# Altium schematic symbol library IntegratedICs.SchLib: 26 symbols
Pins are listed as number, name and electrical type; pins without a type are passive.

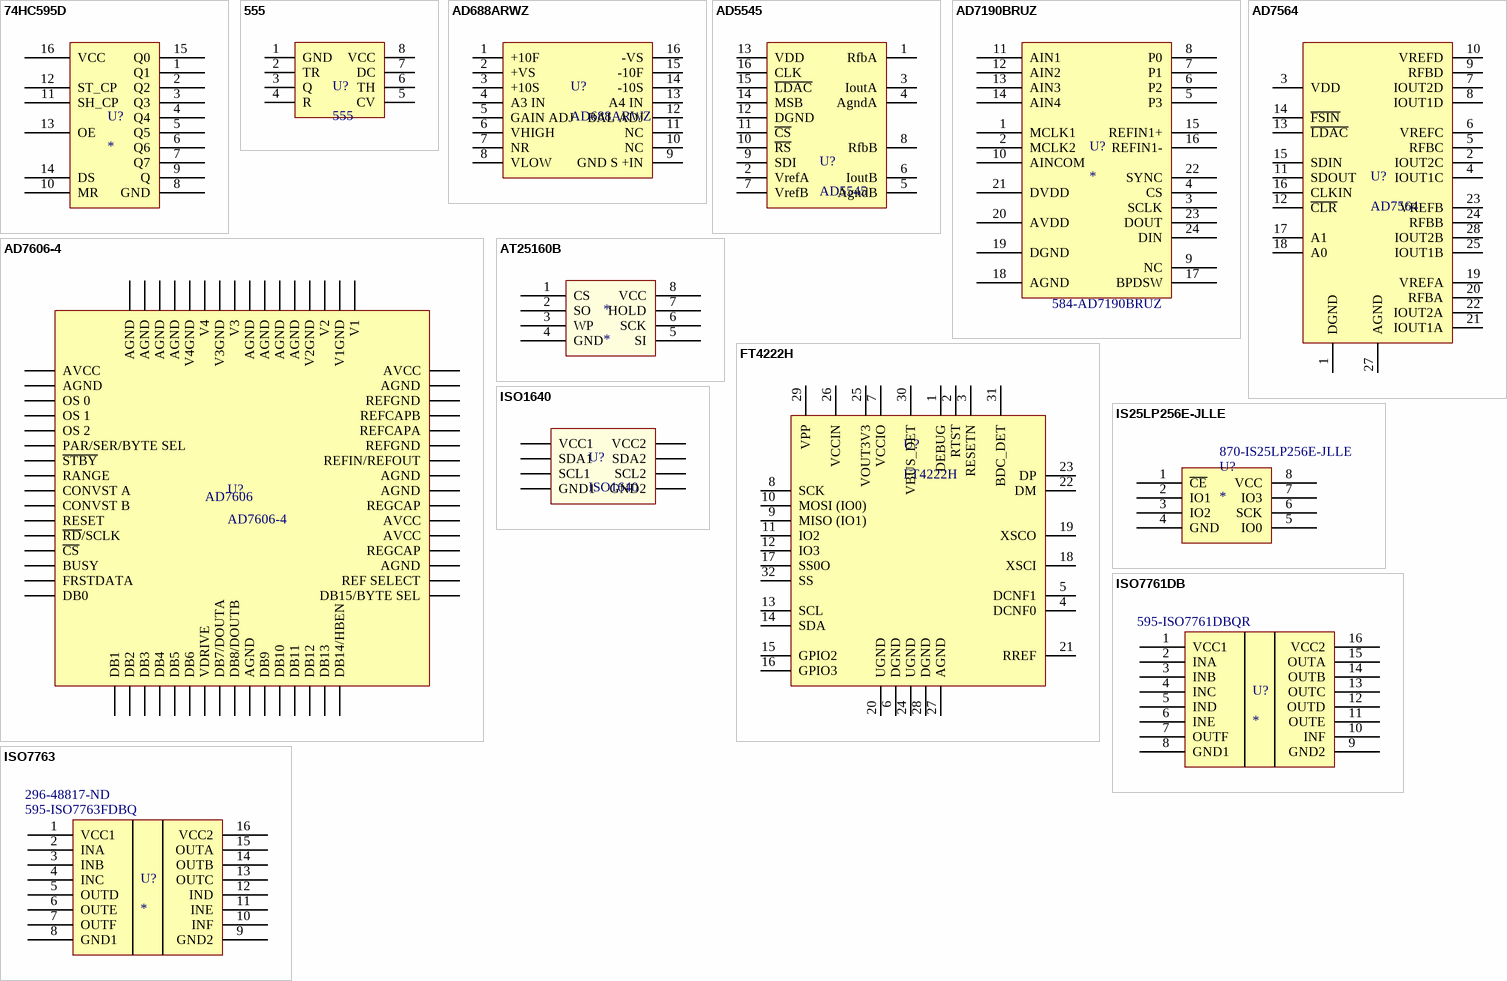
[diagram p0: symbols 74HC595D to ISO7763]

## 74HC595D
designator U?
footprint SOIC-16 (Footprint not found)
pins: 1 Q1, 2 Q2, 3 Q3, 4 Q4, 5 Q5, 6 Q6, 7 Q7, 8 GND, 9 Q, 10 MR, 11 SH_CP, 12 ST_CP, 13 OE, 14 DS, 15 Q0, 16 VCC

## 555
designator U?
footprint SOIC-8 (Footprint not found)
pins: 1 GND, 2 TR, 3 Q, 4 R, 5 CV, 6 TH, 7 DC, 8 VCC

## AD688ARWZ
designator U?
Supplier 1: Digi-Key; Supplier 2: Mouser; Supplier Part Number 1: AD688ARWZ-ND; Supplier Part Number 2: 584-AD688ARWZ
footprint SOIC-16 (SOIC, 16-Leads, Body 9.90x5.30mm, Pitch 1.27mm, IPC Medium Density)
pins: 1 +10F, 2 +VS, 3 +10S, 4 A3 IN, 5 GAIN ADJ, 6 VHIGH, 7 NR, 8 VLOW, 9 GND S +IN, 10 NC, 11 NC, 12 BAL ADJ, 13 A4 IN, 14 -10S, 15 -10F, 16 -VS

## AD5545
designator U?
footprint TSSOP-16 (Footprint not found)
pins: 1 RfbA, 2 VrefA, 3 IoutA, 4 AgndA, 5 AgndB, 6 IoutB, 7 VrefB, 8 RfbB, 9 SDI, 10 ~{RS}, 11 ~{CS}, 12 DGND, 13 VDD, 14 MSB, 15 ~{LDAC}, 16 CLK

## AD7190BRUZ
designator U?  Supplier Part Number 1: 584-AD7190BRUZ
Supplier 1: Mouser
footprint TSSOP-24 (Footprint not found)
pins: 1 MCLK1, 2 MCLK2, 3 SCLK, 4 CS, 5 P3, 6 P2, 7 P1, 8 P0, 9 NC, 10 AINCOM, 11 AIN1, 12 AIN2, 13 AIN3, 14 AIN4, 15 REFIN1+, 16 REFIN1-, 17 BPDSW, 18 AGND, 19 DGND, 20 AVDD, 21 DVDD, 22 SYNC, 23 DOUT, 24 DIN

## AD7564
designator U?
+3.3 V/+5 V, Low Power, Quad 12-Bit DAC
footprint DIP-28 (Footprint not found)
pins: 1 DGND, 2 IOUT2C, 3 VDD, 4 IOUT1C, 5 RFBC, 6 VREFC, 7 IOUT2D, 8 IOUT1D, 9 RFBD, 10 VREFD, 11 SDOUT, 12 ~{CLR}, 13 ~{LDAC}, 14 ~{FSIN}, 15 SDIN, 16 CLKIN, 17 A1, 18 A0, 19 VREFA, 20 RFBA, 21 IOUT1A, 22 IOUT2A, 23 VREFB, 24 RFBB, 25 IOUT1B, 27 AGND, 28 IOUT2B

## AD7606-4
designator U?
Supplier 1: Digi-Key; Supplier 2: Mouser; Supplier Part Number 1: 505-AD7606BSTZ-4RLCT-ND; Supplier Part Number 2: 584-AD7606BSTZ-4R
footprint LQFP-64 (Footprint not found)
pins: 1 AVCC, 2 AGND, 3 OS 0, 4 OS 1, 5 OS 2, 6 PAR/SER/BYTE SEL, 7 ~{STBY}, 8 RANGE, 9 CONVST A, 10 CONVST B, 11 RESET, 12 ~{RD}/SCLK, 13 ~{CS}, 14 BUSY, 15 FRSTDATA, 16 DB0, 17 DB1, 18 DB2, 19 DB3, 20 DB4, 21 DB5, 22 DB6, 23 VDRIVE, 24 DB7/DOUTA, 25 DB8/DOUTB, 26 AGND, 27 DB9, 28 DB10, 29 DB11, 30 DB12, 31 DB13, 32 DB14/HBEN, 33 DB15/BYTE SEL, 34 REF SELECT, 35 AGND, 36 REGCAP, 37 AVCC, 38 AVCC, 39 REGCAP, 40 AGND, 41 AGND, 42 REFIN/REFOUT, 43 REFGND, 44 REFCAPA, 45 REFCAPB, 46 REFGND, 47 AGND, 48 AVCC, 49 V1, 50 V1GND, 51 V2, 52 V2GND, 53 AGND, 54 AGND, 55 AGND, 56 AGND, 57 V3, 58 V3GND, 59 V4, 60 V4GND, 61 AGND, 62 AGND, 63 AGND, 64 AGND
text: AD7606

## AT25160B
designator *
footprint SOIC-8 (Footprint not found)
pins: 1 CS, 2 SO, 3 WP, 4 GND, 5 SI, 6 SCK, 7 HOLD, 8 VCC

## FT4222H
designator U?
USB2.0 to QuadSPI/I2C / Bridge IC; Supplier 1: Mouser; Supplier Part Number 1: 895-FT4222H-R
footprint QFN-32 (Footprint not found)
pins: 1 DEBUG, 2 RTST, 3 RESETN, 4 DCNF0, 5 DCNF1, 6 DGND, 7 VCCIO, 8 SCK, 9 MISO (IO1), 10 MOSI (IO0), 11 IO2, 12 IO3, 13 SCL, 14 SDA, 15 GPIO2, 16 GPIO3, 17 SS0O, 18 XSCI, 19 XSCO, 20 UGND, 21 RREF, 22 DM, 23 DP, 24 UGND, 25 VOUT3V3, 26 VCCIN, 27 AGND, 28 DGND, 29 VPP, 30 VBUS_DET, 31 BDC_DET, 32 SS

## IS25LP256E-JLLE
designator U?  Supplier Part Number 1: 870-IS25LP256E-JLLE
NOR Flash 256Mb QPI/QSPI, 8-pin WSON 6X8MM, RoHS; Supplier 1: Mouser; ComponentLink1Description: datasheet; ComponentLink1URL: https://www.mouser.de/datasheet/2/198/25LP-WP256E-1620711.pdf
footprint WSON-8 (Footprint not found)
pins: 1 ~{CE}, 2 IO1, 3 IO2, 4 GND, 5 IO0, 6 SCK, 7 IO3, 8 VCC

## ISO1640
designator U?
Supplier 1: Mouser; Supplier Part Number 1: 595-ISO1640BDR
footprint SOIC-8 (SOIC, 8-Leads, Body 6.20x5.30mm, Pitch 1.27mm, IPC Medium Density)
pins: 1 VCC1, 2 SDA1, 3 SCL1, 4 GND1, 5 GND2, 6 SCL2, 7 SDA2, 8 VCC2

## ISO7761DB
designator U?  Supplier Part Number 1: 595-ISO7761DBQR
Supplier 1: Mouser; ComponentLink1Description: DATASHEET; ComponentLink1URL: https://www.ti.com/lit/ds/symlink/iso7761.pdf?ts=1601364656708&ref_url=https%253A%252F%252Fwww.ti.com%252Fproduct%252FISO7761
footprint SSOP-16 (Footprint not found)
pins: 1 VCC1, 2 INA, 3 INB, 4 INC, 5 IND, 6 INE, 7 OUTF, 8 GND1, 9 GND2, 10 INF, 11 OUTE, 12 OUTD, 13 OUTC, 14 OUTB, 15 OUTA, 16 VCC2

## ISO7763
designator U?  Supplier Part Number 1: 595-ISO7763FDBQ  Supplier Part Number 2: 296-48817-ND
ComponentLink1Description: DATASHEET; ComponentLink1URL: https://www.ti.com/lit/ds/symlink/iso7761.pdf?ts=1601364656708&ref_url=https%253A%252F%252Fwww.ti.com%252Fproduct%252FISO7761; Supplier 1: Mouser; Supplier 2: Digi-Key
footprint SSOP-16 (Footprint not found)
pins: 1 VCC1, 2 INA, 3 INB, 4 INC, 5 OUTD, 6 OUTE, 7 OUTF, 8 GND1, 9 GND2, 10 INF, 11 INE, 12 IND, 13 OUTC, 14 OUTB, 15 OUTA, 16 VCC2

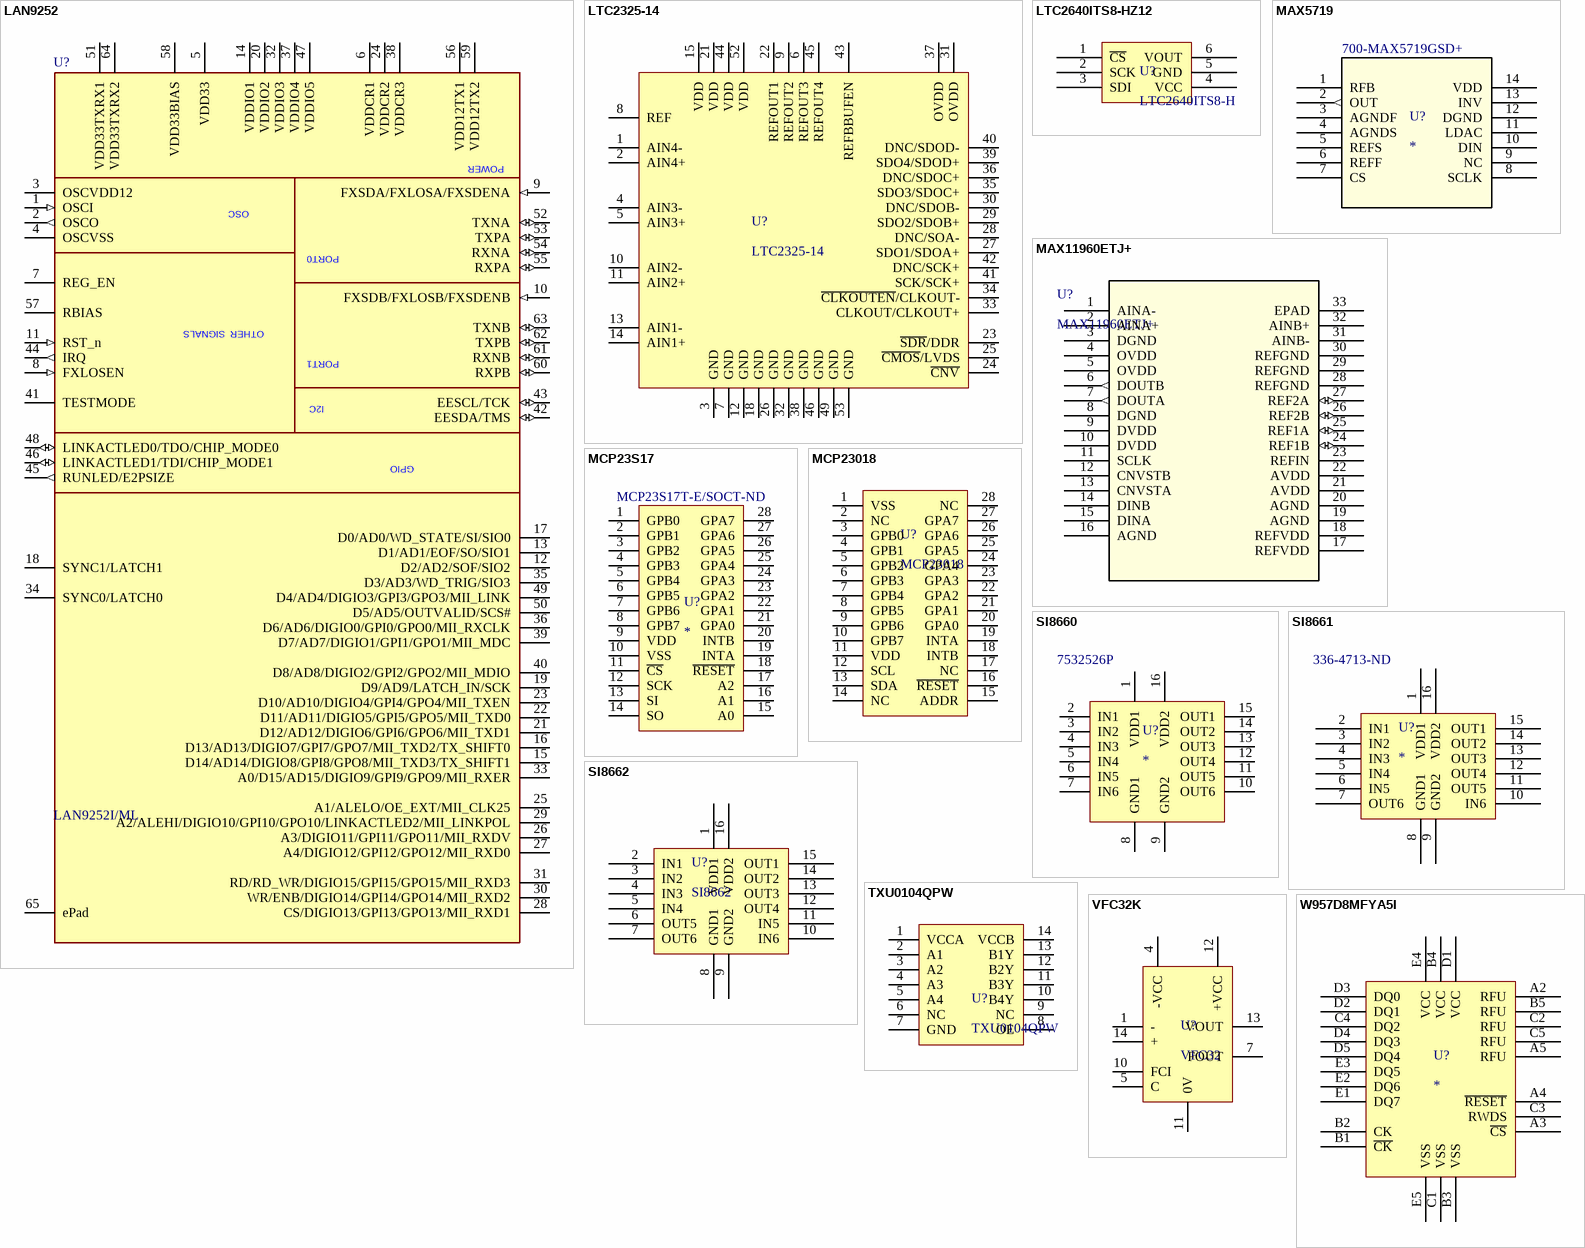
[diagram p1: symbols LAN9252 to W957D8MFYA5I]

## LAN9252
designator U?, comment value LAN9252I/ML  (hidden comment: LAN9252 QFN-64)
Manufacturer 1: Microchip Technology; MCHP-ID: MIC7449; Description_: MCHP INTERFACE ETHERNET LAN9252I/ML 64QFN; Dev Tools Status: Production; Owner: Dragos Danaila; Populated: YES; Symbol: LAN9252 QFN-64; Type: Ethernet; Status: MCL Design; Revision: 1; Category: MCHP-Interface; ComponentLink1Description: SVN Datasheet; ComponentLink2URL: C:\ALTIUM_WORK\00001_MCHP-CDB\Datasheets\00001909A.pdf; ComponentLink2Description: Local Datasheet; ComponentLink3URL: C:\ALTIUM_WORK\00001_MCHP-CDB\Library\LibraryRefs\LAN9252 QFN-64.SchLib; ComponentLink3Description: Open Symbol; ComponentLink4URL: C:\ALTIUM_WORK\00001_MCHP-CDB\Library\Footprints\QFN-64_9X9_EP6.PcbLib; ComponentLink4Description: Open Footprint; ComponentLink5Description: Open Footprint 2; ComponentLink6Description: Open Footprint 3; ComponentLink7Description: Open Footprint 4; Manufacturer Part Number 1: LAN9252I/ML; Supplier 1: Digi-Key; Supplier Part Number 1: LAN9252I/ML-ND; Quantity Override: 1
footprint QFN-64 (Footprint not found)
pins: 1 OSCI (in), 2 OSCO (out), 3 OSCVDD12 (power), 4 OSCVSS (power), 5 VDD33 (power), 6 VDDCR1 (power), 7 REG_EN, 8 FXLOSEN (in), 9 FXSDA/FXLOSA/FXSDENA (in), 10 FXSDB/FXLOSB/FXSDENB (in), 11 RST_n (in), 12 D2/AD2/SOF/SIO2, 13 D1/AD1/EOF/SO/SIO1, 14 VDDIO1 (power), 15 D14/AD14/DIGIO8/GPI8/GPO8/MII_TXD3/TX_SHIFT1, 16 D13/AD13/DIGIO7/GPI7/GPO7/MII_TXD2/TX_SHIFT0, 17 D0/AD0/WD_STATE/SI/SIO0, 18 SYNC1/LATCH1, 19 D9/AD9/LATCH_IN/SCK, 20 VDDIO2 (power), 21 D12/AD12/DIGIO6/GPI6/GPO6/MII_TXD1, 22 D11/AD11/DIGIO5/GPI5/GPO5/MII_TXD0, 23 D10/AD10/DIGIO4/GPI4/GPO4/MII_TXEN, 24 VDDCR2 (power), 25 A1/ALELO/OE_EXT/MII_CLK25, 26 A3/DIGIO11/GPI11/GPO11/MII_RXDV, 27 A4/DIGIO12/GPI12/GPO12/MII_RXD0, 28 CS/DIGIO13/GPI13/GPO13/MII_RXD1, 29 A2/ALEHI/DIGIO10/GPI10/GPO10/LINKACTLED2/MII_LINKPOL, 30 WR/ENB/DIGIO14/GPI14/GPO14/MII_RXD2, 31 RD/RD_WR/DIGIO15/GPI15/GPO15/MII_RXD3, 32 VDDIO3 (power), 33 A0/D15/AD15/DIGIO9/GPI9/GPO9/MII_RXER, 34 SYNC0/LATCH0, 35 D3/AD3/WD_TRIG/SIO3, 36 D6/AD6/DIGIO0/GPI0/GPO0/MII_RXCLK, 37 VDDIO4 (power), 38 VDDCR3 (power), 39 D7/AD7/DIGIO1/GPI1/GPO1/MII_MDC, 40 D8/AD8/DIGIO2/GPI2/GPO2/MII_MDIO, 41 TESTMODE, 42 EESDA/TMS (io), 43 EESCL/TCK (io), 44 IRQ (out), 45 RUNLED/E2PSIZE (out), 46 LINKACTLED1/TDI/CHIP_MODE1 (io), 47 VDDIO5 (power), 48 LINKACTLED0/TDO/CHIP_MODE0 (io), 49 D4/AD4/DIGIO3/GPI3/GPO3/MII_LINK, 50 D5/AD5/OUTVALID/SCS#, 51 VDD33TXRX1 (power), 52 TXNA (io), 53 TXPA (io), 54 RXNA (io), 55 RXPA (io), 56 VDD12TX1 (power), 57 RBIAS, 58 VDD33BIAS (power), 59 VDD12TX2 (power), 60 RXPB (io), 61 RXNB (io), 62 TXPB (io), 63 TXNB (io), 64 VDD33TXRX2 (power), 65 ePad (power)
3 alternate drawings of the same symbol
text: POWER; OSC; PORT0; OTHER  SIGNALS; PORT1; I2C; GPIO

## LTC2325-14
designator U?
Quad, 14-Bit + Sign, 5Msps/Ch / Simultaneous Sampling ADC
footprint QFN-52 (Footprint not found)
pins: 1 AIN4-, 2 AIN4+, 3 GND, 4 AIN3-, 5 AIN3+, 6 REFOUT3, 7 GND, 8 REF, 9 REFOUT2, 10 AIN2-, 11 AIN2+, 12 GND, 13 AIN1-, 14 AIN1+, 15 VDD, 18 GND, 21 VDD, 22 REFOUT1, 23 ~{SDR}/DDR, 24 ~{CNV}, 25 ~{CMOS}/LVDS, 26 GND, 27 SDO1/SDOA+, 28 DNC/SOA-, 29 SDO2/SDOB+, 30 DNC/SDOB-, 31 OVDD, 32 GND, 33 CLKOUT/CLKOUT+, 34 ~{CLKOUTEN}/CLKOUT-, 35 SDO3/SDOC+, 36 DNC/SDOC+, 37 OVDD, 38 GND, 39 SDO4/SDOD+, 40 DNC/SDOD-, 41 SCK/SCK+, 42 DNC/SCK+, 43 REFBBUFEN, 44 VDD, 45 REFOUT4, 46 GND, 49 GND, 52 VDD, 53 GND

## LTC2640ITS8-HZ12
designator U?, comment LTC2640ITS8-H
Supplier 1: Digi-Key; Supplier Part Number 1: LTC2640ITS8-HZ12#TRMPBFCT-ND
footprint SC-70-6 (Footprint not found)
pins: 1 ~{CS}, 2 SCK, 3 SDI, 4 VCC, 5 GND, 6 VOUT

## MAX5719
designator U?  Supplier Part Number 1: 700-MAX5719GSD+
DAC 1Msps 18-bit; Supplier 1: Mouser
footprint SOIC-14 (SOIC, 14-Leads, Body 8.65x3.90mm, Pitch 1.27mm, IPC High Density)
pins: 1 RFB, 2 OUT (out), 3 AGNDF, 4 AGNDS, 5 REFS, 6 REFF, 7 CS, 8 SCLK, 9 NC, 10 DIN, 11 LDAC, 12 DGND, 13 INV, 14 VDD (power)

## MAX11960ETJ+
designator U?
ADC 2Ch 1Msps 18-bit; Vendor: Maxim Integrated Products; Built_By: EMA_UL_Team; SourceLibrary: Maxim_2018-11-30; Manufacturer_Part_Number: MAX11960ETJ+; Copyright: Copyright (C) 2018 Accelerated Designs. All rights reserved; RefDes: RefDes; Type: DEV
footprint 21-0140L_T3255-5_MXM
footprint QFN-32 (QFN, 32-Leads, Body 5.10x5.10mm, Pitch 0.50mm, Thermal Pad 3.15x3.15mm, IPC High Density)
pins: 1 AINA-, 2 AINA+, 3 DGND, 4 OVDD (power), 5 OVDD (power), 6 DOUTB (out), 7 DOUTA (out), 8 DGND, 9 DVDD (power), 10 DVDD (power), 11 SCLK, 12 CNVSTB, 13 CNVSTA, 14 DINB, 15 DINA, 16 AGND, 17 REFVDD (power), 18 REFVDD (power), 19 AGND, 20 AGND, 21 AVDD (power), 22 AVDD (power), 23 REFIN, 24 REF1B (io), 25 REF1A (io), 26 REF2B (io), 27 REF2A (io), 28 REFGND, 29 REFGND, 30 REFGND, 31 AINB-, 32 AINB+, 33 EPAD

## MCP23S17
designator U?  Supplier Part Number 1: MCP23S17T-E/SOCT-ND
Supplier 1: Digi-Key
footprint SOIC-28 (Footprint not found)
pins: 1 GPB0, 2 GPB1, 3 GPB2, 4 GPB3, 5 GPB4, 6 GPB5, 7 GPB6, 8 GPB7, 9 VDD, 10 VSS, 11 ~{CS}, 12 SCK, 13 SI, 14 SO, 15 A0, 16 A1, 17 A2, 18 ~{RESET}, 19 INTA, 20 INTB, 21 GPA0, 22 GPA1, 23 GPA2, 24 GPA3, 25 GPA4, 26 GPA5, 27 GPA6, 28 GPA7

## MCP23018
designator U?
Supplier 1: Digi-Key; Supplier 2: Mouser; Supplier Part Number 1: MCP23018-E/SO-ND; Supplier Part Number 2: 579-MCP23018-E/SO
footprint SOIC-28 (SOIC, 28-Leads, Body 17.90x7.50mm, Pitch 1.27mm, IPC Medium Density)
pins: 1 VSS, 2 NC, 3 GPB0, 4 GPB1, 5 GPB2, 6 GPB3, 7 GPB4, 8 GPB5, 9 GPB6, 10 GPB7, 11 VDD, 12 SCL, 13 SDA, 14 NC, 15 ADDR, 16 ~{RESET}, 17 NC, 18 INTB, 19 INTA, 20 GPA0, 21 GPA1, 22 GPA2, 23 GPA3, 24 GPA4, 25 GPA5, 26 GPA6, 27 GPA7, 28 NC

## SI8660
designator U?  Supplier Part Number 1: 7532526P
Supplier 1: RSComponents
footprint SOIC-16 (Footprint not found)
pins: 1 VDD1, 2 IN1, 3 IN2, 4 IN3, 5 IN4, 6 IN5, 7 IN6, 8 GND1, 9 GND2, 10 OUT6, 11 OUT5, 12 OUT4, 13 OUT3, 14 OUT2, 15 OUT1, 16 VDD2

## SI8661
designator U?  Supplier Part Number 1: 336-4713-ND
Supplier 1: Digi-Key
footprint SOIC-16 (Footprint not found)
pins: 1 VDD1, 2 IN1, 3 IN2, 4 IN3, 5 IN4, 6 IN5, 7 OUT6, 8 GND1, 9 GND2, 10 IN6, 11 OUT5, 12 OUT4, 13 OUT3, 14 OUT2, 15 OUT1, 16 VDD2

## SI8662
designator U?
footprint SOIC-16 (Footprint not found)
pins: 1 VDD1, 2 IN1, 3 IN2, 4 IN3, 5 IN4, 6 OUT5, 7 OUT6, 8 GND1, 9 GND2, 10 IN6, 11 IN5, 12 OUT4, 13 OUT3, 14 OUT2, 15 OUT1, 16 VDD2

## TXU0104QPW
designator U?
Supplier 1: Digi-Key; Supplier 2: Mouser; Supplier Part Number 1: 296-TXU0104QPWRQ1CT-ND; Supplier Part Number 2: 595-TXU0104QPWRQ1
footprint TSOP-14 (TSOP, 14-Leads, Body 5.00x4.40mm, Pitch 0.65mm, IPC Medium Density)
pins: 1 VCCA, 2 A1, 3 A2, 4 A3, 5 A4, 6 NC, 7 GND, 8 OE, 9 NC, 10 B4Y, 11 B3Y, 12 B2Y, 13 B1Y, 14 VCCB

## VFC32K
designator U?, comment VFC32
footprint DIP-14 (Footprint not found)
pins: 1 -, 4 -VCC, 5 C, 7 FOUT, 10 FCI, 11 0V, 12 +VCC, 13 VOUT, 14 +

## W957D8MFYA5I
designator U?
DRAM 128Mb HyperRAM x8, 200MHz, Ind temp, 1.8V
footprint TFBGA-24 (BGA, 24-Leads, Body 6.00x8.00mmx1.20mm, Pitch 1.00mm)
pins: A2 RFU, A3 ~{CS}, A4 ~{RESET}, A5 RFU, B1 ~{CK}, B2 CK, B3 VSS, B4 VCC, B5 RFU, C1 VSS, C2 RFU, C3 RWDS, C4 DQ2, C5 RFU, D1 VCC, D2 DQ1, D3 DQ0, D4 DQ3, D5 DQ4, E1 DQ7, E2 DQ6, E3 DQ5, E4 VCC, E5 VSS